# Altium schematic symbol library LM27762DSSR.SchLib: 2 symbols
Pins are listed as number, name and electrical type; pins without a type are passive.

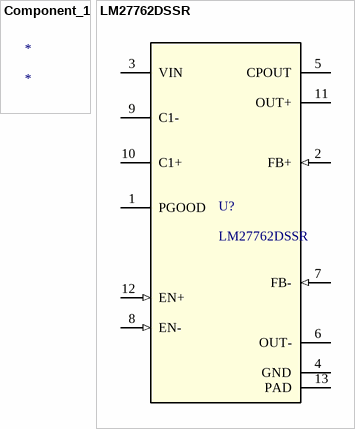
[diagram p0: symbols Component_1 to LM27762DSSR]

## Component_1
designator *

## LM27762DSSR
designator U?
No Description Available; Mfr_Name: Texas Instruments; Type: DEV; RefDes: RefDes; Copyright: Copyright (C) 2023 Ultra Librarian. All rights reserved.; Manufacturer_Part_Number: LM27762DSSR
footprint DSS0012B
pins: 1 PGOOD (oc), 2 FB+ (in), 3 VIN (power), 4 GND (power), 5 CPOUT (power), 6 OUT- (power), 7 FB- (in), 8 EN- (in), 9 C1-, 10 C1+, 11 OUT+ (power), 12 EN+ (in), 13 PAD (power)